# Altium schematic symbol library Diode_Nexperia_1PS79SB30_115_eec.SchLib: 1 symbol
Pins are listed as number, name and electrical type; pins without a type are passive.

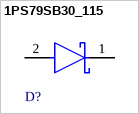
[diagram p0: symbol 1PS79SB30_115]

## 1PS79SB30_115
designator D?  (value not drawn)
pins: 1 C, 2 A